# EAGLE library part CONN,EDGE,2X10 (library QuantumOptics)
Board edge connector, 2 rows of 10 such as Edac 307- or 357-020-52x-2xx.
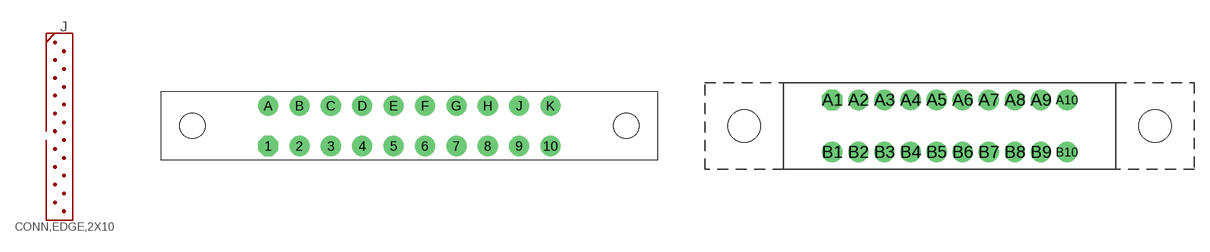
[diagram p187: symbol with the pads of CONN,EDGE,2X10,0.156; footprints CONN,EDGE,2X10,0.156, CONN,EDGE,2X10,0.100]

Designator prefix J

## CONN,EDGE,2X10-EDAC_307_357-020-52X-2XX  [CONN,EDGE,2X10,0.156]
1  1
2  2
3  3
4  4
5  5
6  6
7  7
8  8
9  9
10  10
A  11
B  12
C  13
D  14
E  15
F  16
G  17
H  18
J  19
K  20

## CONN,EDGE,2X10-SULLINS_EBC10DRX_  [CONN,EDGE,2X10,0.100]
A1  1
A2  3
A3  5
A4  7
A5  9
A6  11
A7  13
A8  15
A9  17
A10  19
B1  2
B2  4
B3  6
B4  8
B5  10
B6  12
B7  14
B8  16
B9  18
B10  20

## Footprint CONN,EDGE,2X10,0.156 (pad centres in mm)
Board edge connector, 2 rows of 10 such as Sullins EBM10DRxx, or, Edac 307- or 357-020-52x-2xx.
drill 1.321 pad 2.54 octagon: 1 0,-2.54
drill 1.321 pad 2.54: 2 3.962,-2.54; 3 7.925,-2.54; 4 11.887,-2.54; 5 15.85,-2.54; 6 19.812,-2.54; 7 23.774,-2.54; 8 27.737,-2.54; 9 31.699,-2.54; 10 35.662,-2.54; A 0,2.54; B 3.962,2.54; C 7.925,2.54; D 11.887,2.54; E 15.85,2.54; F 19.812,2.54; G 23.774,2.54; H 27.737,2.54; J 31.699,2.54; K 35.662,2.54
hole 3.175 at -9.55,0
hole 3.175 at 45.212,0

## Footprint CONN,EDGE,2X10,0.100 (pad centres in mm)
Board edge connector, 2 rows of 10 such as Sullins EBC10DRXH.
drill 1.321 octagon: A1 -11.43,2.54
drill 1.321: A2 -8.89,2.54; A3 -6.35,2.54; A4 -3.81,2.54; A5 -1.27,2.54; A6 1.27,2.54; A7 3.81,2.54; A8 6.35,2.54; A9 8.89,2.54; A10 11.43,2.54; B1 -11.43,-2.54; B2 -8.89,-2.54; B3 -6.35,-2.54; B4 -3.81,-2.54; B5 -1.27,-2.54; B6 1.27,-2.54; B7 3.81,-2.54; B8 6.35,-2.54; B9 8.89,-2.54; B10 11.43,-2.54
hole 3.175 at -20.003,0
hole 3.175 at 20.003,0